# EAGLE library part PINHD-12 (library m_connector)
12 Pin Header
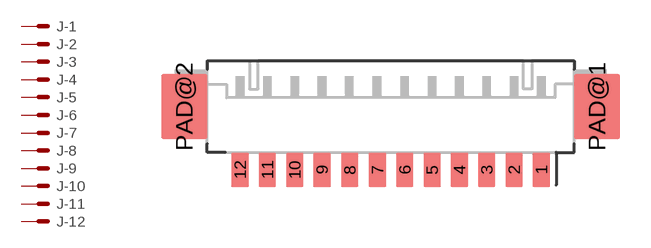
[diagram p21: symbol with the pads of MOLEX_53261-1271; footprint MOLEX_53261-1271]

Designator prefix J; gates -1=M -2=M -3=M -4=M -5=M -6=M -7=M -8=M -9=M -10=M -11=M -12=M

## PINHD-12MOLEX-PICOBLADE-SMT-RIGHT_ANGLE  [MOLEX_53261-1271]
1  -1:S  pas
2  -2:S  pas
3  -3:S  pas
4  -4:S  pas
5  -5:S  pas
6  -6:S  pas
7  -7:S  pas
8  -8:S  pas
9  -9:S  pas
10  -10:S  pas
11  -11:S  pas
12  -12:S  pas

## Footprint MOLEX_53261-1271 (pad centres in mm)
Molex 53261 Series PicoBlade, 1.25mm Pitch, Right Angle, SMT, 12 Conductor Molex 1.25mm pitch right angle SMT connector. Pre tinned phosphor bronze pins, mates with 51021 series.
smd 0.8 x 1.6: 1 6.895,-0.8; 2 5.645,-0.8; 3 4.395,-0.8; 4 3.145,-0.8; 5 1.895,-0.8; 6 0.645,-0.8; 7 -0.605,-0.8; 8 -1.875,-0.8; 9 -3.145,-0.8; 10 -4.395,-0.8; 11 -5.645,-0.8; 12 -6.895,-0.8
smd 2.1 x 3: PAD@1 9.445,2.1; PAD@2 -9.445,2.1